# Altium footprint library 20P_HEADER-SPE-159120-2002.PcbLib: 1 footprints
Each footprint in its own frame and in the unit in brackets; x right, y up, seen from the top. Pads: shape width x height; smd on the part's side, far side on the other; paste and mask are expansions set on the pad; w line width, h text height; cw(c..) or ccw(c..) is an arc to the next point about the centre after c.
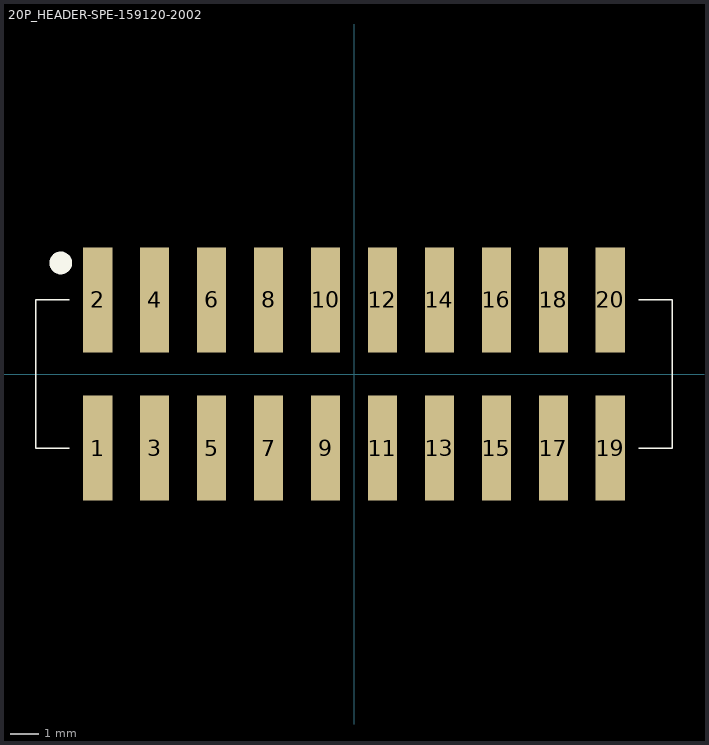
[diagram p0: the footprint, top view; thin cyan lines are the x and y axes]

## 20P_HEADER-SPE-159120-2002 [mm] "20P header, 2 rows, pitch 2mm"
height 6.82
pads (20):
  rect 1.02x3.7 smd: 1(-9,-2.6) 2(-9,2.6) 3(-7,-2.6) 4(-7,2.6) 5(-5,-2.6) 6(-5,2.6) 7(-3,-2.6) 8(-3,2.6) 9(-1,-2.6) 10(-1,2.6) 11(1,-2.6) 12(1,2.6) 13(3,-2.6) 14(3,2.6) 15(5,-2.6) 16(5,2.6) 17(7,-2.6) 18(7,2.6) 19(9,-2.6) 20(9,2.6)
Top Overlay:
  circle w0.4: c-10.3,3.9 r0.2
  lines w0.05: -10,-2.6 -11.175,-2.6 -11.175,2.6 -10,2.6 ; 10,-2.6 11.175,-2.6 11.175,2.6 10,2.6
3D body: height 6.39, standoff -0.05, extent -11.192,-4.033 11.158,4.001